# EAGLE library part SN65DSI83 (library glasses)
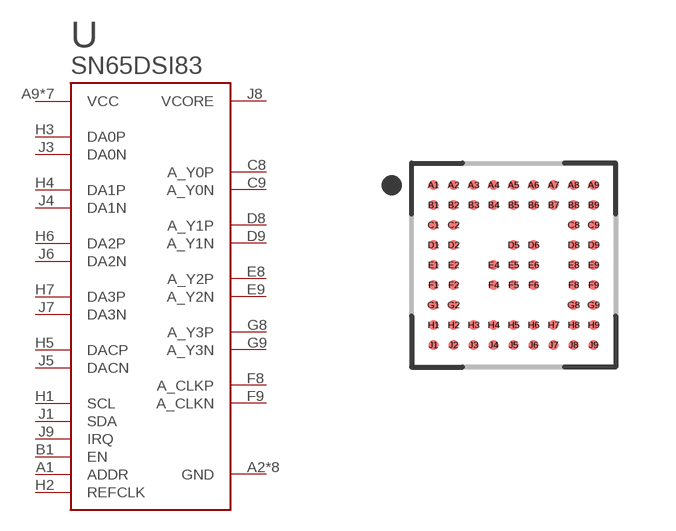
[diagram p6: symbol with the pads of BGA81C50P9X9_500X500X100; footprint BGA81C50P9X9_500X500X100]

Designator prefix U

## SN65DSI83PBGA-N64  [BGA81C50P9X9_500X500X100]
A1  ADDR
A2  GND
A8  GND
A9  VCC
B1  EN
B8  VCC
B9  GND
C8  A_Y0P
C9  A_Y0N
D5  GND
D6  VCC
D8  A_Y1P
D9  A_Y1N
E4  GND
E5  VCC
E6  VCC
E8  A_Y2P
E9  A_Y2N
F4  GND
F5  GND
F6  VCC
F8  A_CLKP
F9  A_CLKN
G8  A_Y3P
G9  A_Y3N
H1  SCL
H2  REFCLK
H3  DA0P
H4  DA1P
H5  DACP
H6  DA2P
H7  DA3P
H9  GND
J1  SDA
J2  VCC
J3  DA0N
J4  DA1N
J5  DACN
J6  DA2N
J7  DA3N
J8  VCORE
J9  IRQ

## Footprint BGA81C50P9X9_500X500X100 (pad centres in mm)
81-BGA, collapsing, 0.50 mm pitch, 5.00 X 5.00 X 1.00 mm body 81-pin collapsing BGA package with 0.50 mm col pitch and 0.50 mm row pitch with body size 5.00 X 5.00 X 1.00 mm
smd 0.25 x 0.25: A1 -2,2; A2 -1.5,2; A3 -1,2; A4 -0.5,2; A5 0,2; A6 0.5,2; A7 1,2; A8 1.5,2; A9 2,2; B1 -2,1.5; B2 -1.5,1.5; B3 -1,1.5; B4 -0.5,1.5; B5 0,1.5; B6 0.5,1.5; B7 1,1.5; B8 1.5,1.5; B9 2,1.5; C1 -2,1; C2 -1.5,1; C8 1.5,1; C9 2,1; D1 -2,0.5; D2 -1.5,0.5; D5 0,0.5; D6 0.5,0.5; D8 1.5,0.5; D9 2,0.5; E1 -2,0; E2 -1.5,0; E4 -0.5,0; E5 0,0; E6 0.5,0; E8 1.5,0; E9 2,0; F1 -2,-0.5; F2 -1.5,-0.5; F4 -0.5,-0.5; F5 0,-0.5; F6 0.5,-0.5; F8 1.5,-0.5; F9 2,-0.5; G1 -2,-1; G2 -1.5,-1; G8 1.5,-1; G9 2,-1; H1 -2,-1.5; H2 -1.5,-1.5; H3 -1,-1.5; H4 -0.5,-1.5; H5 0,-1.5; H6 0.5,-1.5; H7 1,-1.5; H8 1.5,-1.5; H9 2,-1.5; J1 -2,-2; J2 -1.5,-2; J3 -1,-2; J4 -0.5,-2; J5 0,-2; J6 0.5,-2; J7 1,-2; J8 1.5,-2; J9 2,-2